# Altium footprint library HV9006_MEASUREBOARD.PCBLIB: 292 footprints (part 9 of 19)
Each footprint in its own frame and in the unit in brackets; x right, y up, seen from the top. Pads: shape width x height; smd on the part's side, far side on the other; paste and mask are expansions set on the pad; w line width, h text height; cw(c..) or ccw(c..) is an arc to the next point about the centre after c.
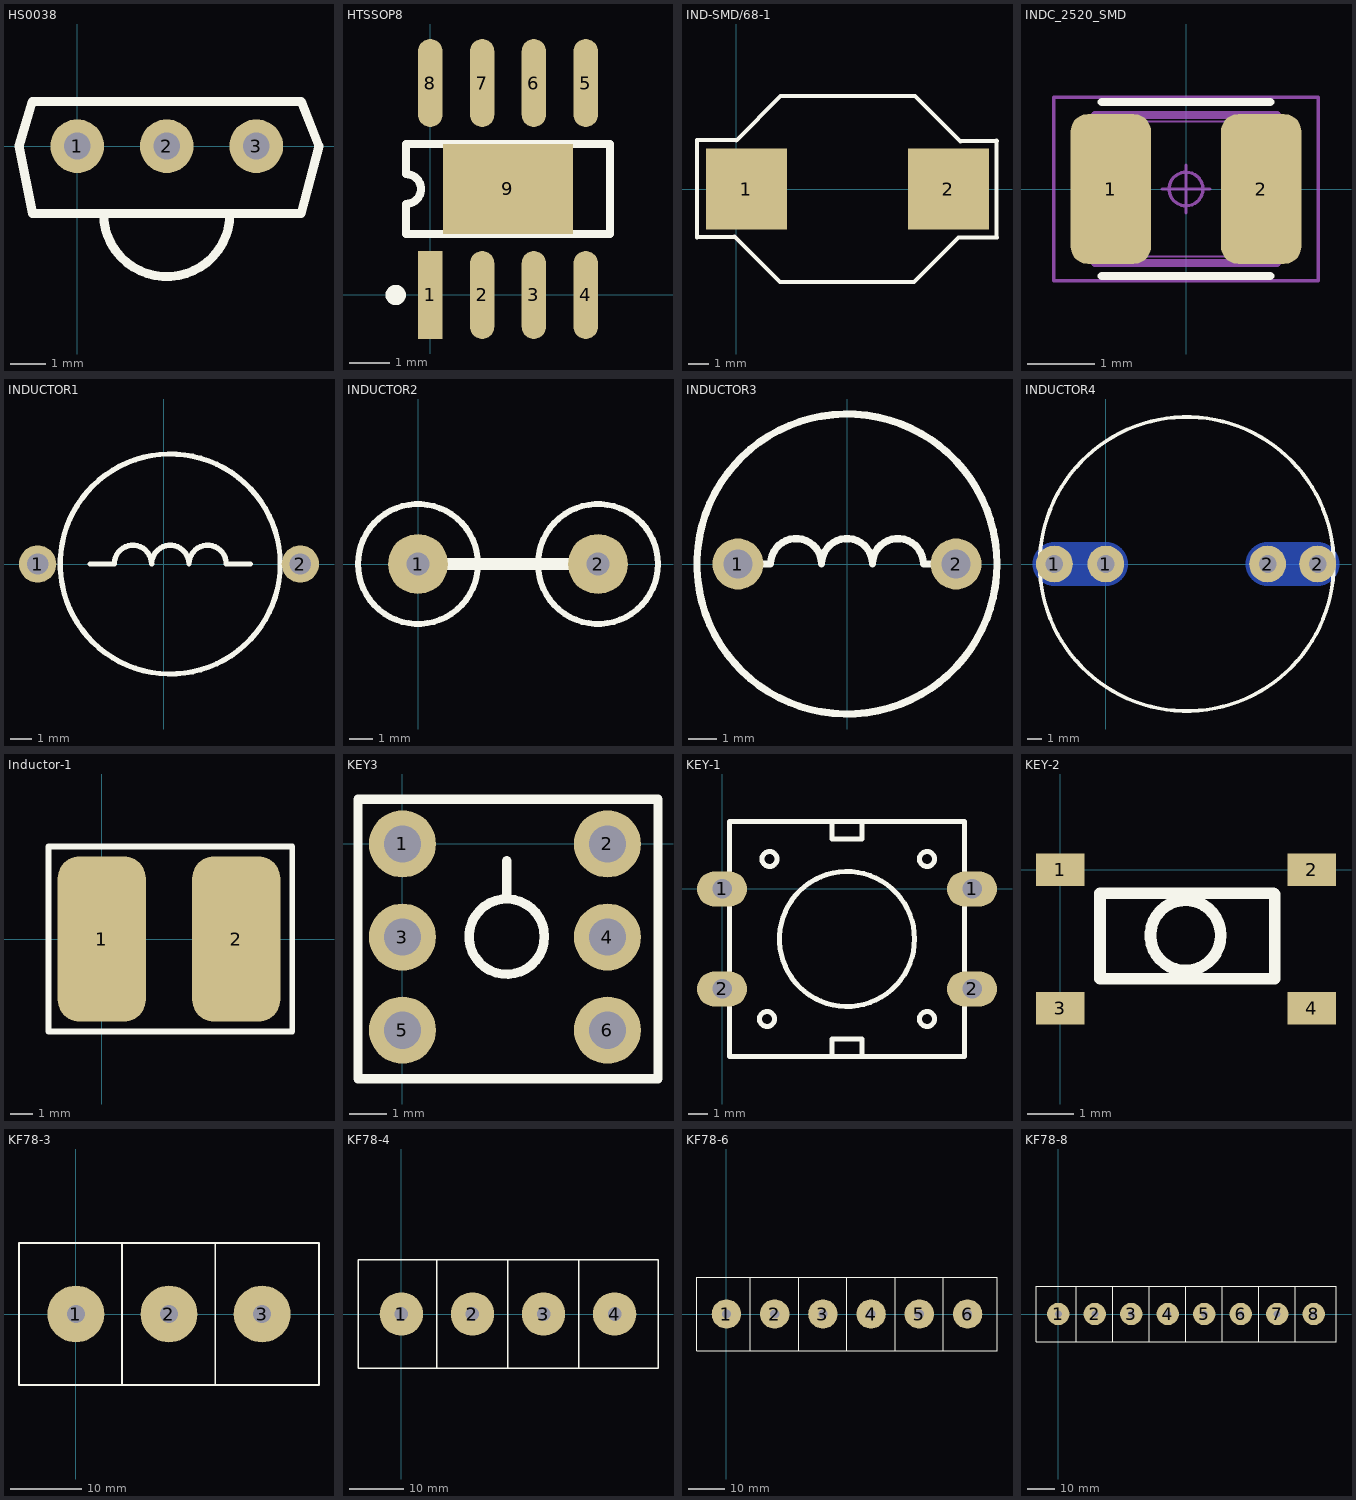
[diagram p8: the footprints below, top view; thin cyan lines are the x and y axes]

## HS0038 [mil]
pads (3):
  round 60 hole 30: 1(0,0) 2(100,0) 3(200,0)
Top Overlay:
  lines w10: 29.29,-75 ccw(c100,-75) 170.71,-75 ; -65,0 -50,-75 250,-75 270,0 250,50 -50,50 -65,0

## HTSSOP8 [mm]
pads (9):
  rect 0.6x2.159 smd: 1(0,0)
  oval 0.6x2.159 smd: 2(1.27,0) 3(2.54,0) 4(3.81,0) 5(3.81,5.2) 6(2.54,5.2) 7(1.27,5.2) 8(0,5.2)
  rect 3.2x2.2 smd: 9(1.905,2.6)
Top Overlay:
  circle w0.25: c-0.85,0 r0.125
  lines w0.2: -0.595,2.233 ccw(c-0.595,2.6) -0.595,2.967 -0.595,3.7 4.405,3.7 4.405,1.5 -0.595,1.5 -0.595,2.233

## IND-SMD/68-1 [mm]
pads (2):
  rect 4x4 smd: 1(0.5,0) 2(10.5,0)
Top Overlay:
  lines w0.2: -1.942,-2.391 -1.942,2.409 ; -1.942,-2.368 -0.14,-2.368 ; -1.942,2.416 0.016,2.416 ; -0.088,-2.35 2.162,-4.6 8.8,-4.6 11,-2.4 ; 0,2.4 2.2,4.6 8.837,4.6 11.087,2.35 ; 10.987,-2.391 12.901,-2.391 ; 11.12,2.372 12.901,2.372 ; 12.878,-2.406 12.878,2.394

## INDC_2520_SMD [mm] "Inductor, Chip; 2.50 mm L X 2.00 mm W X 1.00 mm H body"
height 1
pads (2):
  rrect42% 1.19x2.22 smd: 1(-1.115,0) 2(1.115,0)
Top Overlay:
  lines w0.12: -1.25,-1.29 1.25,-1.29 ; -1.25,1.29 1.25,1.29
Mechanical 11:
  lines w0.12: -1.35,-1.1 -1.35,1.1 1.35,1.1 1.35,-1.1 -1.35,-1.1
Mechanical 12:
  lines w0.025: -1.25,-1 -0.63,-1 -0.63,1 -1.25,1 ; -1.25,-1 -1.25,1 ; -1.25,-1 -1.25,1 ; -1.25,-1 1.25,-1 ; -1.25,1 1.25,1 ; 1.25,-1 1.25,1 ; 1.25,-1 0.63,-1 0.63,1 1.25,1 ; 1.25,-1 1.25,1
Mechanical 15:
  circle w0.05: c0,0 r0.25
  lines w0.05: -0.35,0 0.35,0 ; 0,-0.35 0,0.35 ; -1.96,-1.36 -1.96,1.36 1.96,1.36 1.96,-1.36 -1.96,-1.36
Mechanical 16:
  text ".Designator" at 0,0 h1.2
3D body: height 1.8, standoff 0.1, extent -1.25,-1 1.25,1
3D body: height 0.1, standoff 0, extent 1,-0.5 1.25,0.5
3D body: height 0.1, standoff 0, extent -1.25,-0.5 -1,0.5
3D body: height 0.5, standoff 0, extent 1.25,-0.5 1.3,0.5
3D body: height 0.5, standoff 0, extent -1.3,-0.5 -1.25,0.5

## INDUCTOR1 [mil]
pads (2):
  round 70 hole 40: 1(-236.22,0) 2(255.91,0)
Top Overlay:
  circle w10: c12.2,0 r206.16
  lines w10: -137.8,0 -92.8,0 cw(c-57.8,0) -22.8,0 cw(c12.2,0) 47.2,0 cw(c82.2,0) 117.2,0 162.2,0

## INDUCTOR2 [mil]
pads (2):
  round 100 hole 39: 1(0,0) 2(300,0)
Top Overlay:
  circle w10: c300,0 r100
  circle w10: c0,0 r100
  lines w20: 0,0 300,0

## INDUCTOR3 [mil]
pads (2):
  round 70 hole 40: 1(-150,0) 2(150,0)
Top Overlay:
  circle w10: c0,0 r206.16
  lines w10: -150,0 -105,0 cw(c-70,0) -35,0 cw(c0,0) 35,0 cw(c70,0) 105,0 150,0

## INDUCTOR4 [mm]
pads (4):
  round 2.5 hole 1.2: 1(-3.5,0) 1(0,0) 2(11,0) 2(14.4,0)
Bottom Layer:
  lines w3: -3.5,0 0,0 ; 11,0 14.4,0
Top Overlay:
  circle w0.254: c5.5,0 r10

## Inductor-1 [mm]
height 3
pads (2):
  rrect50% 4x7.5 smd: 1(0,0) 2(6.096,0)
Top Overlay:
  lines w0.254: -2.413,-4.191 -2.413,4.191 8.636,4.191 8.636,-4.191 -2.413,-4.191

## KEY3 [mm]
pads (6):
  round 1.8 hole 1: 1(0,0) 2(5.5,0) 3(0,-2.5) 4(5.5,-2.5) 5(0,-5) 6(5.5,-5)
Top Overlay:
  circle w0.254: c2.798,-2.489 r1.012
  lines w0.254: 2.794,-1.397 2.794,-0.457 ; -1.194,-6.299 -1.194,1.194 6.858,1.194 6.858,-6.299 -1.194,-6.299

## KEY-1 [mil]
pads (4):
  oval 100x70 hole 39: 1(0,0) 1(500,0) 2(0,-200) 2(500,-200)
Top Overlay:
  circle w10: c95,60 r15
  circle w10: c90,-260 r15
  circle w10: c410,-260 r15
  circle w10: c410,60 r15
  circle w10: c250,-100 r135
  lines w10: 220,-335 220,-300 250,-300 280,-300 280,-335 ; 220,135 220,100 250,100 280,100 280,135 ; 15,-335 485,-335 485,-100 485,135 15,135 15,-335

## KEY-2 [mm] "4*4*1.5mm"
pads (4):
  rect 1.05x0.7 smd: 1(0,0) 2(5.45,0) 3(0,-3) 4(5.45,-3)
Top Overlay:
  circle w0.254: c2.717,-1.422 r0.762
  lines w0.254: 0.864,-2.362 4.648,-2.362 4.648,-0.533 4.623,-0.508 0.864,-0.508 0.864,-2.362

## KF78-3 [mm]
pads (3):
  round 8 hole 2.5: 1(0,0) 2(13.1,0) 3(26.2,0)
Top Overlay:
  lines w0.254: 6.5,-10 6.5,10 ; 19.6,-10 19.6,10 ; -8,-10 -8,10 34.2,10 34.2,-10 -8,-10

## KF78-4 [mm]
pads (4):
  round 8 hole 2.5: 1(0,0) 2(13.1,0) 3(26.2,0) 4(39.3,0)
Top Overlay:
  lines w0.254: 6.5,-10 6.5,10 ; 19.6,-10 19.6,10 ; 32.7,-10 32.7,10 ; -8,-10 47.3,-10 47.3,10 -8,10 -8,-10

## KF78-6 [mm]
pads (6):
  round 8 hole 2.5: 1(0,0) 2(13.1,0) 3(26.2,0) 4(39.3,0) 5(52.4,0) 6(65.5,0)
Top Overlay:
  lines w0.254: 6.5,-10 6.5,10 ; 19.6,-10 19.6,10 ; 32.7,-10 32.7,10 ; 45.8,-10 45.8,10 ; 58.9,-10 58.9,10 ; -8,-10 -8,10 73.5,10 73.5,-10 -8,-10

## KF78-8 [mm]
pads (8):
  round 8 hole 2.5: 1(0,0) 2(13.1,0) 3(26.2,0) 4(39.3,0) 5(52.4,0) 6(65.5,0) 7(78.6,0) 8(91.7,0)
Top Overlay:
  lines w0.254: 6.5,-10 6.5,10 ; 19.6,-10 19.6,10 ; 32.7,-10 32.7,10 ; 45.8,-10 45.8,10 ; 58.9,-10 58.9,10 ; 72,-10 72,10 ; 85.1,-10 85.1,10 ; -8,-10 -8,10 99.7,10 99.7,-10 -8,-10